# EAGLE library part ESP8266MOD (library ESP8266)
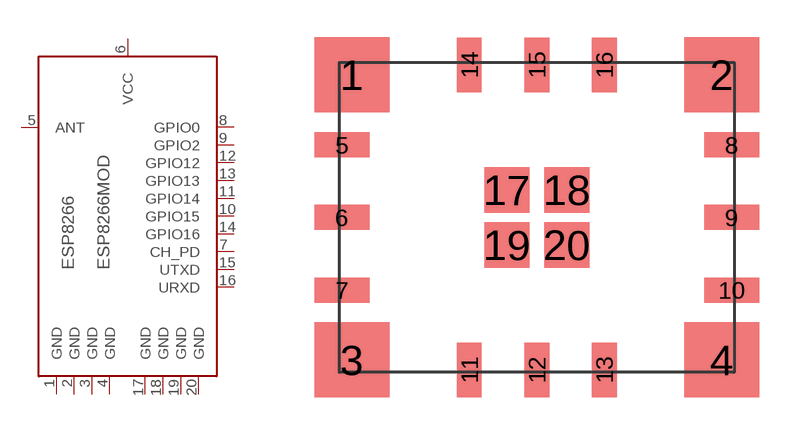
[diagram p0: symbol with the pads of ESP8266MOD; footprint ESP8266MOD]

Designator prefix ESP8266

## ESP8266MOD  [ESP8266MOD]
1  GND
2  GND
3  GND
4  GND
5  ANT
6  VCC
7  CH_PD
8  GPIO0
9  GPIO2
10  GPIO15
11  GPIO14
12  GPIO12
13  GPIO13
14  GPIO16
15  UTXD
16  URXD
17  GND
18  GND
19  GND
20  GND

## Footprint ESP8266MOD (pad centres in mm)
smd 3 x 3: 1 -7.4,5.7; 2 7.4,5.7; 3 -7.4,-5.7; 4 7.4,-5.7
smd 2.2 x 1: 5 -7.8,2.9; 6 -7.8,0; 7 -7.8,-2.9; 8 7.8,2.9; 9 7.8,0; 10 7.8,-2.9
smd 1 x 2.2: 11 -2.7,-6.1; 12 0,-6.1; 13 2.7,-6.1; 14 -2.7,6.1; 15 0,6.1; 16 2.7,6.1
smd 1.8 x 1.8: 17 -1.2,1.1; 18 1.2,1.1; 19 -1.2,-1.1; 20 1.2,-1.1